# Altium footprint library APSS Generic Components.PcbLib: 32 footprints (part 2 of 2)
Each footprint in its own frame and in the unit in brackets; x right, y up, seen from the top. Pads: shape width x height; smd on the part's side, far side on the other; paste and mask are expansions set on the pad; w line width, h text height; cw(c..) or ccw(c..) is an arc to the next point about the centre after c.
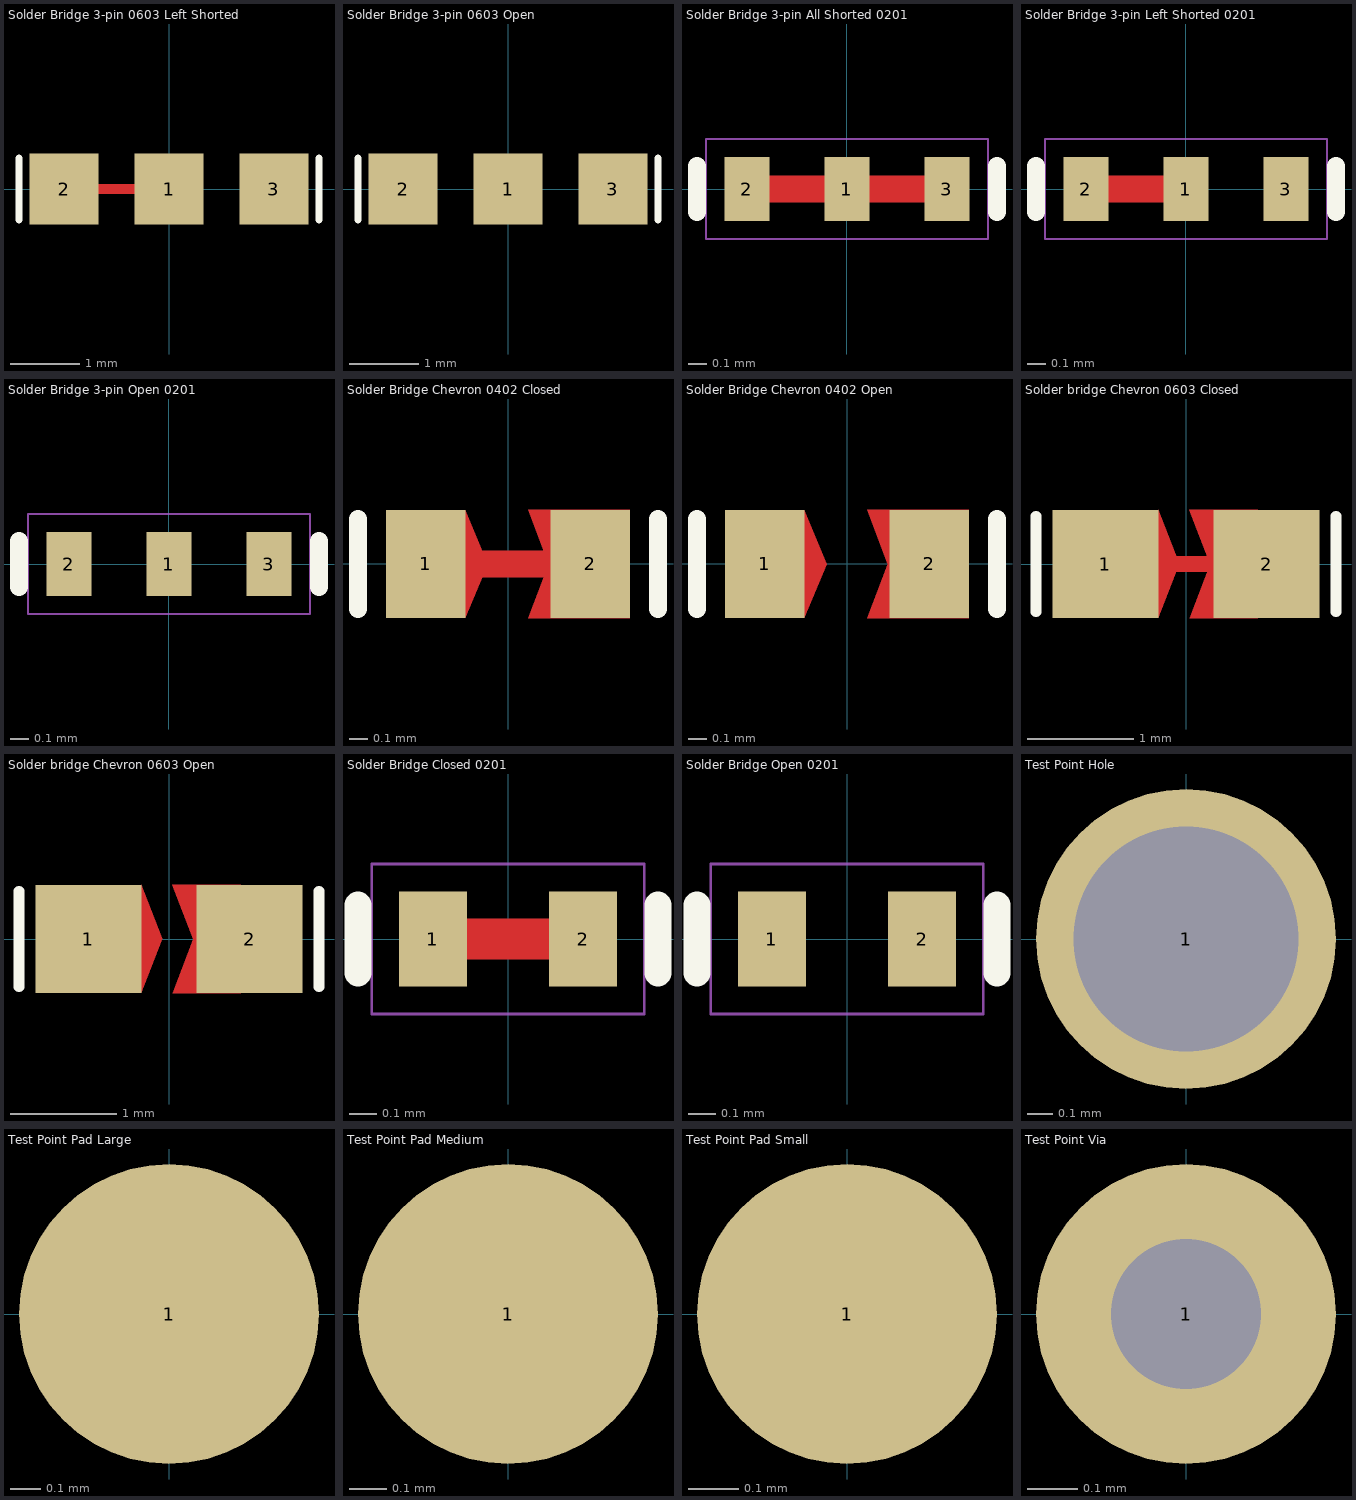
[diagram p1: the footprints below, top view; thin cyan lines are the x and y axes]

## Solder Bridge 3-pin 0603 Left Shorted [mm]
pads (3):
  rect 1x1.02 smd paste-2539.97 mask+0: 1(0,0) 2(-1.518,0) 3(1.518,0)
Top Layer:
  lines w0.15: -1.494,0 -0.05,0
Top Overlay:
  lines w0.1: -2.169,-0.45 -2.169,0.45 ; 2.169,-0.45 2.169,0.45
Top Solder:
  rectangle: -1.47,-0.51 1.546,0.51

## Solder Bridge 3-pin 0603 Open [mm]
pads (3):
  rect 1x1.02 smd paste-2539.97 mask+0: 1(0,0) 2(-1.518,0) 3(1.518,0)
Top Overlay:
  lines w0.1: -2.169,-0.45 -2.169,0.45 ; 2.169,-0.45 2.169,0.45
Top Solder:
  rectangle: -1.47,-0.51 1.546,0.51

## Solder Bridge 3-pin All Shorted 0201 [mm]
pads (3):
  rect 0.25x0.35 smd paste-100 mask+0: 1(0,0) 2(-0.55,0) 3(0.55,0)
Top Layer:
  lines w0.15: -0.5,0 -0.05,0 ; 0.05,0 0.5,0
Top Overlay:
  lines w0.1: -0.825,-0.125 -0.825,0.125 ; 0.825,-0.125 0.825,0.125
Top Solder:
  rectangle: -0.55,-0.175 0.55,0.175
Mechanical 13:
  lines w0.01: -0.775,-0.275 0.775,-0.275 0.775,0.275 -0.775,0.275 -0.775,-0.275

## Solder Bridge 3-pin Left Shorted 0201 [mm]
pads (3):
  rect 0.25x0.35 smd paste-100 mask+0: 1(0,0) 2(-0.55,0) 3(0.55,0)
Top Layer:
  lines w0.15: -0.475,0 -0.05,0
Top Overlay:
  lines w0.1: -0.825,-0.125 -0.825,0.125 ; 0.825,-0.125 0.825,0.125
Top Solder:
  rectangle: -0.55,-0.175 0.55,0.175
Mechanical 13:
  lines w0.01: -0.775,-0.275 0.775,-0.275 0.775,0.275 -0.775,0.275 -0.775,-0.275

## Solder Bridge 3-pin Open 0201 [mm]
pads (3):
  rect 0.25x0.35 smd paste-100 mask+0: 1(0,0) 2(-0.55,0) 3(0.55,0)
Top Overlay:
  lines w0.1: -0.825,-0.125 -0.825,0.125 ; 0.825,-0.125 0.825,0.125
Top Solder:
  rectangle: -0.55,-0.175 0.55,0.175
Mechanical 13:
  lines w0.01: -0.775,-0.275 -0.775,0.275 0.775,0.275 0.775,-0.275 -0.775,-0.275

## Solder Bridge Chevron 0402 Closed [mm] "Small solder bridge. Shorted."
pads (2):
  rect 0.44x0.6 smd paste-2539.97 mask+0: 1(-0.457,0) 2(0.457,0)
Top Layer:
  region: 0.677,0.3 0.677,0 0.227,0 0.113,0.3
  region: 0.677,-0.3 0.677,0 0.227,0 0.113,-0.3
  region: -0.677,-0.3 -0.677,0.3 -0.237,0.3 -0.112,0 -0.237,-0.3
  lines w0.15: -0.2,0 0.25,0
Top Overlay:
  lines w0.1: -0.834,-0.25 -0.834,0.25 ; 0.834,-0.25 0.834,0.25
Top Solder:
  region: -0.458,-0.3 -0.458,0.3 -0.237,0.3 0.44,0.3 0.44,-0.3

## Solder Bridge Chevron 0402 Open [mm] "Small solder bridge. Open."
pads (2):
  rect 0.44x0.6 smd paste-2539.97 mask+0: 1(-0.457,0) 2(0.457,0)
Top Layer:
  region: -0.677,-0.3 -0.677,0.3 -0.237,0.3 -0.112,0 -0.237,-0.3
  region: 0.677,-0.3 0.677,0 0.227,0 0.113,-0.3
  region: 0.677,0.3 0.677,0 0.227,0 0.113,0.3
Top Overlay:
  lines w0.1: -0.834,-0.25 -0.834,0.25 ; 0.834,-0.25 0.834,0.25
Top Solder:
  region: -0.458,-0.3 -0.458,0.3 -0.237,0.3 0.44,0.3 0.44,-0.3

## Solder bridge Chevron 0603 Closed [mm] "Solder bridge for robust, easy to access bridges that are likely to be soldered and unsoldered often. Shorted."
height 1
pads (2):
  rect 1x1.02 smd paste-2539.97 mask+0: 1(-0.759,0) 2(0.759,0)
Top Layer:
  region: -0.631,-0.296 -0.631,0.304 -0.26,0.51 -0.065,0.003 -0.26,-0.506
  region: 0.677,-0.51 0.677,0 0.227,0 0.033,-0.51
  region: 0.677,0.51 0.677,0 0.227,0 0.033,0.51
  lines w0.15: -0.2,0 0.25,0
Top Overlay:
  lines w0.1: -1.414,-0.45 -1.414,0.45 ; 1.414,-0.45 1.414,0.45
Top Solder:
  rectangle: -0.631,-0.51 0.677,0.51

## Solder bridge Chevron 0603 Open [mm] "Solder bridge for robust, easy to access bridges that are likely to be soldered and unsoldered often. Open."
height 1
pads (2):
  rect 1x1.02 smd paste-2539.97 mask+0: 1(-0.759,0) 2(0.759,0)
Top Layer:
  region: 0.677,0.51 0.677,0 0.227,0 0.033,0.51
  region: 0.677,-0.51 0.677,0 0.227,0 0.033,-0.51
  region: -0.631,-0.296 -0.631,0.304 -0.26,0.51 -0.065,0.003 -0.26,-0.506
Top Overlay:
  lines w0.1: -1.414,-0.45 -1.414,0.45 ; 1.414,-0.45 1.414,0.45
Top Solder:
  rectangle: -0.631,-0.51 0.677,0.51

## Solder Bridge Closed 0201 [mm] "Tiny inline solder bridge for when space is at an absolute premium. Shorted."
pads (2):
  rect 0.25x0.35 smd paste-100 mask+0: 1(-0.275,0) 2(0.275,0)
Top Layer:
  lines w0.15: -0.225,0 0.225,0
Top Overlay:
  lines w0.1: -0.55,-0.125 -0.55,0.125 ; 0.55,-0.125 0.55,0.125
Top Solder:
  rectangle: -0.275,-0.175 0.275,0.175
Mechanical 13:
  lines w0.01: -0.5,-0.275 -0.5,0.275 0.5,0.275 0.5,-0.275 -0.5,-0.275

## Solder Bridge Open 0201 [mm] "Tiny inline solder bridge for when space is at an absolute premium. Open."
pads (2):
  rect 0.25x0.35 smd paste-100 mask+0: 1(-0.275,0) 2(0.275,0)
Top Overlay:
  lines w0.1: -0.55,-0.125 -0.55,0.125 ; 0.55,-0.125 0.55,0.125
Top Solder:
  rectangle: -0.275,-0.175 0.275,0.175
Mechanical 13:
  lines w0.01: -0.5,-0.275 -0.5,0.275 0.5,0.275 0.5,-0.275 -0.5,-0.275

## Test Point Hole [mm] "A through-hole pad large enough to hold an oscilloscope probe tip unaided. Suitable for nets that are likely to be probed often, or probed simultaneously with other nets."
pads (1):
  round 1.2 hole 0.9 mask+0.051: 1(0,0)

## Test Point Pad Large [mm] "Exposed copper pad, 1mm dia. Very easy to probe."
pads (1):
  round 1 smd paste-10 mask+0.051: 1(0,0)

## Test Point Pad Medium [mm] "Exposed copper pad, 0.8mm dia."
pads (1):
  round 0.8 smd paste-10 mask+0.051: 1(0,0)

## Test Point Pad Small [mm] "Exposed copper pad, 0.6mm dia."
pads (1):
  round 0.6 smd paste-10 mask+0.051: 1(0,0)

## Test Point Via [mm] "A small via that can be probed by the tip of an oscilloscope probe. It is too small to fit a probe tip, so it must be manually held in place. Suitable for nets that are unlikely to be frequently probed."
pads (1):
  round 0.6 hole 0.3 mask+0.051: 1(0,0)